# EAGLE library part IGLD60R190D1 (library IGLD60R190D1)
IGLD60R190D1 INF-PG-LSON-8-1 Field-Effect Transistor (FET), N-Channel, Enhancement, Pin 1-4 Drain, Pin 5-6,9 Source, Pin 7 kelvin Source, Pin 8 Gate, 9pins
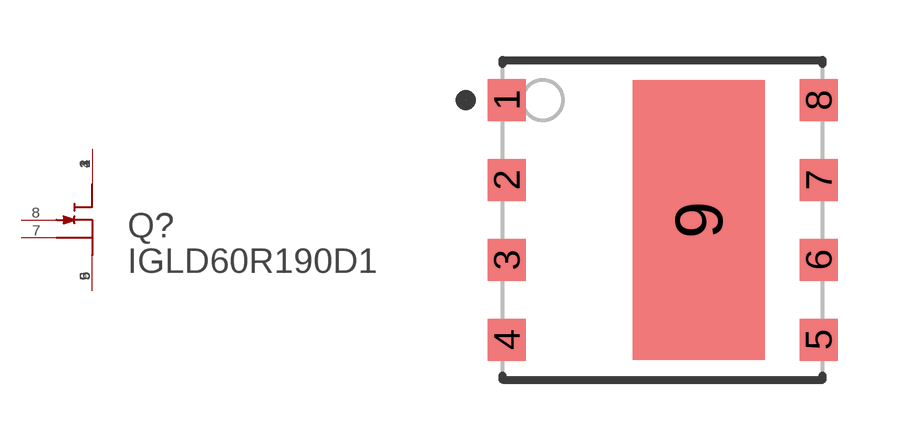
[diagram p0: symbol with the pads of INF-PG-LSON-8-1; footprint INF-PG-LSON-8-1]

Designator prefix Q?

## IGLD60R190D1  [INF-PG-LSON-8-1]
1  D1  pas
2  D2  pas
3  D3  pas
4  D4  pas
5  S1  pas
6  S2  pas
7  SK  pas
8  G  pas
9  S3  pas

## Footprint INF-PG-LSON-8-1 (pad centres in mm)
Original name INF-PG-LSON-8-1 Max Component Height - 1.35mm
smd 0.95 x 1.05: 1 -3.9,3; 2 -3.9,1; 3 -3.9,-1; 4 -3.9,-3; 5 3.9,-3; 6 3.9,-1; 7 3.9,1; 8 3.9,3
smd 3.3 x 7: 9 0.9,0